# Altium footprint library Zeter_PCB_Lib.PcbLib: 22 footprints (part 1 of 2)
Each footprint in its own frame and in the unit in brackets; x right, y up, seen from the top. Pads: shape width x height; smd on the part's side, far side on the other; paste and mask are expansions set on the pad; w line width, h text height; cw(c..) or ccw(c..) is an arc to the next point about the centre after c.
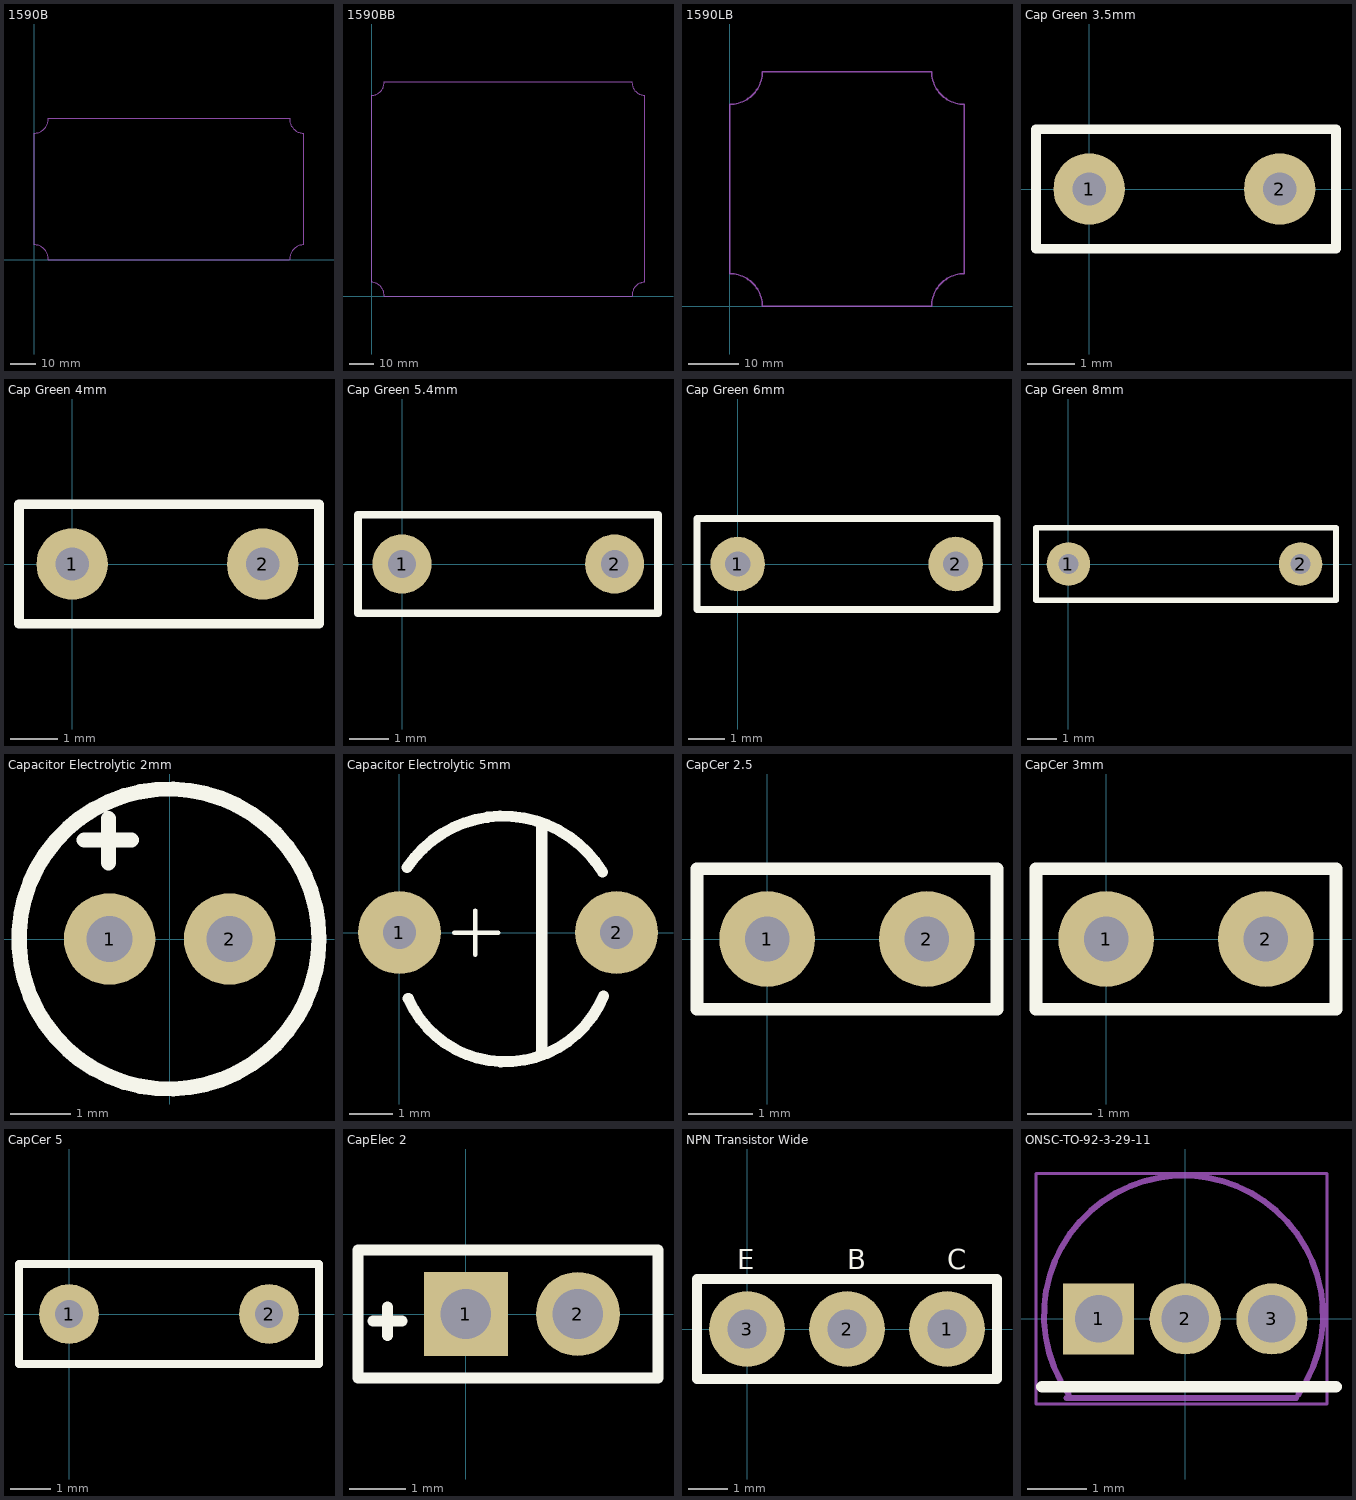
[diagram p0: the footprints below, top view; thin cyan lines are the x and y axes]

## 1590B [mm] "INSIDE BOX DIMENSIONS HAMMOND ENCLOSURE"
height 27
Mechanical 1:
  lines w0.254: 5.74,0 101.84,0 ; 5.74,56.5 101.84,56.5 ; 5.75,0 ccw(c-0.125,0.125) 0,6 0,50.5 ccw(c-0.125,56.375) 5.75,56.5 ; 101.854,0 cw(c107.729,0.125) 107.597,6 ; 101.854,56.49 ccw(c107.604,56.24) 107.354,50.49 ; 107.58,6 107.58,50.5
3D body "1590B.stp": height 14, standoff -17, extent -2.2,-1.25 110.2,59.25

## 1590BB [mm] "INSIDE BOX DIMENSIONS HAMMOND ENCLOSURE"
height 30
Mechanical 1:
  lines w0.254: -0.051,5.69 cw(c-0.279,0.229) 5.182,0 ; -0.025,83.744 ccw(c-0.254,89.154) 5.156,89.383 ; 0,5.75 0,83.75 ; 5.165,0 108.665,0 ; 5.165,89.5 108.665,89.5 ; 108.61,89.484 ccw(c113.97,89.179) 113.665,83.82 ; 108.636,0.025 cw(c114.046,0.305) 113.767,5.715 ; 113.83,5.75 113.83,83.75

## 1590LB [mm] "INSIDE BOX DIMENSIONS HAMMOND ENCLOSURE"
height 27.05
Mechanical 1:
  lines w0.254: 0,6.5 cw(c0,0) 6.5,0 40.2,0 cw(c46.7,0) 46.7,6.5 46.7,40.2 cw(c46.7,46.7) 40.2,46.7 6.5,46.7 cw(c0,46.7) 0,40.2 0,6.5
3D body "1590LB.stp": height 14, standoff -17, extent 0,0 50.6,50.6

## Cap Green 3.5mm [mm] "3.5mm spacing"
pads (2):
  round 1.5 hole 0.7: 1(0,0) 2(4,0)
Top Overlay:
  lines w0.2: -1.118,-1.25 5.182,-1.25 5.182,1.25 -1.118,1.25 -1.118,-1.25
3D body "CAP d6x3_5_5mm.step": height 8.1, standoff -2.02, extent -0.866,-0.999 5.134,1.101

## Cap Green 4mm [mm] "4mm spacing"
pads (2):
  round 1.5 hole 0.7: 1(0,0) 2(4,0)
Top Overlay:
  lines w0.2: -1.118,-1.25 5.182,-1.25 5.182,1.25 -1.118,1.25 -1.118,-1.25
3D body "CAP d6x3_5_5mm.step": height 8.1, standoff -2.02, extent -0.866,-0.999 5.134,1.101

## Cap Green 5.4mm [mm] "5.4mm spacing for Tayda"
pads (2):
  round 1.5 hole 0.7: 1(0,0) 2(5.4,0)
Top Overlay:
  lines w0.2: -1.118,-1.25 6.502,-1.25 6.502,1.25 -1.118,1.25 -1.118,-1.25
3D body "CAP d6x3_5_5mm.step": height 8.1, standoff -2.02, extent -0.866,-0.999 5.134,1.101

## Cap Green 6mm [mm] "6mm spacing"
pads (2):
  round 1.5 hole 0.7: 1(0,0) 2(6,0)
Top Overlay:
  lines w0.2: -1.118,-1.25 7.137,-1.25 7.137,1.25 -1.118,1.25 -1.118,-1.25
3D body "CAP d6x3_5_5mm.step": height 8.1, standoff -2.02, extent 0.201,-1.024 6.2,1.076

## Cap Green 8mm [mm] "8mm spacing"
pads (2):
  round 1.5 hole 0.7: 1(0,0) 2(8,0)
Top Overlay:
  lines w0.2: -1.118,-1.25 9.22,-1.25 9.22,1.25 -1.118,1.25 -1.118,-1.25
3D body "CAP d6x3_5_5mm.step": height 8.1, standoff -2.02, extent 1.039,-1.05 7.039,1.05

## Capacitor Electrolytic 2mm [mil] "Based on Tayda datasheet"
pads (2):
  round 60 hole 30: 1(-39.37,0) 2(39.37,0)
Top Overlay:
  circle w10: c-0.37,0 r98.43
  lines w10: -56,65 -25,65 ; -40,50 -40,79

## Capacitor Electrolytic 5mm [mil]
pads (2):
  round 75 hole 30: 1(0,0) 2(196.85,0)
Top Overlay:
  lines w3.94: 49.64,0 89.64,0 ; 68.64,-20 68.64,20
  lines w10: 7,59 cw(c94.21,0.52) 183.92,55.09 ; 8.05,-59.73 ccw(c96,-21) 184.89,-57.52 ; 129,-108 129,96

## CapCer 2.5 [mm]
pads (2):
  round 1.5 hole 0.7: 1(0,0) 2(2.5,0)
Top Overlay:
  lines w0.2: -1.1,-1.1 -1.1,1.1 3.6,1.1 3.6,-1.1 -1.1,-1.1
3D body "Cer-Cap2 3_5x1_5.step": height 4.5, standoff -2, extent -0.55,-0.75 2.95,0.751

## CapCer 3mm [mm]
pads (2):
  round 1.5 hole 0.7: 1(0,0) 2(2.5,0)
Top Overlay:
  lines w0.2: -1.1,-1.1 -1.1,1.1 3.6,1.1 3.6,-1.1 -1.1,-1.1
3D body "Cer-Cap2 3_5x1_5.step": height 4.5, standoff -2, extent -0.55,-0.75 2.95,0.751

## CapCer 5 [mm]
pads (2):
  round 1.5 hole 0.7: 1(0,0) 2(5,0)
Top Overlay:
  lines w0.2: -1.25,-1.25 6.25,-1.25 6.25,1.25 -1.25,1.25 -1.25,-1.25
3D body "CAP d6x3_5_5mm.step": height 8.1, standoff -2.02, extent -0.5,-1 5.5,1.1

## CapElec 2 [mm]
pads (2):
  rect 1.5x1.5 hole 0.9: 1(0,0)
  round 1.5 hole 0.9: 2(2,0)
Top Overlay:
  lines w0.2: -1.651,-0.127 -1.143,-0.127 ; -1.397,-0.381 -1.397,0.127 ; -1.925,-1.143 3.429,-1.143 3.429,0.496 3.429,1.143 -1.925,1.143 -1.925,-1.143
3D body "User Library-Aluminum Electrolytic CapacitorsCAPAE250P680X1220_VERT.STEP": height 12.2, standoff -1.78, extent -2.6,-3.3 4.201,3.5

## NPN Transistor Wide [mm] "Wide Leg Spacing"
pads (3):
  round 1.93 hole 1: 1(5.08,0) 2(2.54,0) 3(0,0)
Top Overlay:
  lines w0.254: -1.27,-1.27 -1.27,1.27 6.35,1.27 6.35,-1.27 -1.27,-1.27
  text "E" at -0.254,1.524 h0.51
  text "B" at 2.54,1.524 h0.51
  text "C" at 5.08,1.524 h0.51
3D body "2N5088 Transistors NPN TO-92 3L (2,54mm).step": height 5.32, standoff -14.2, extent 0.5,-1.63 5.26,2

## ONSC-TO-92-3-29-11 [mm] "TO, 3-Leads, Body Dia 4.7mm, Pitch 1.27mm"
height 7.87
pads (3):
  rect 1.2x1.2 hole 0.8: 1(-1.46,0)
  round 1.2 hole 0.8: 2(0,0) 3(1.46,0)
Top Overlay:
  lines w0.2: -2.413,-1.143 2.54,-1.143
Mechanical 13:
  lines w0.1: -1.997,-1.335 1.87,-1.335 ; -1.963,-1.27 cw(c-0.029,0.065) 1.905,-1.27
Mechanical 15:
  lines w0.05: -2.514,-1.435 2.387,-1.435 2.387,2.45 -2.514,2.45 -2.514,-1.435
  lines w0.1: -0.563,0 0.436,0 ; -0.064,-0.5 -0.064,0.5
3D body: height 7.87, standoff 2.54, extent -2.416,-1.339 2.29,2.355